# EAGLE library part 6PIN (library Headers)
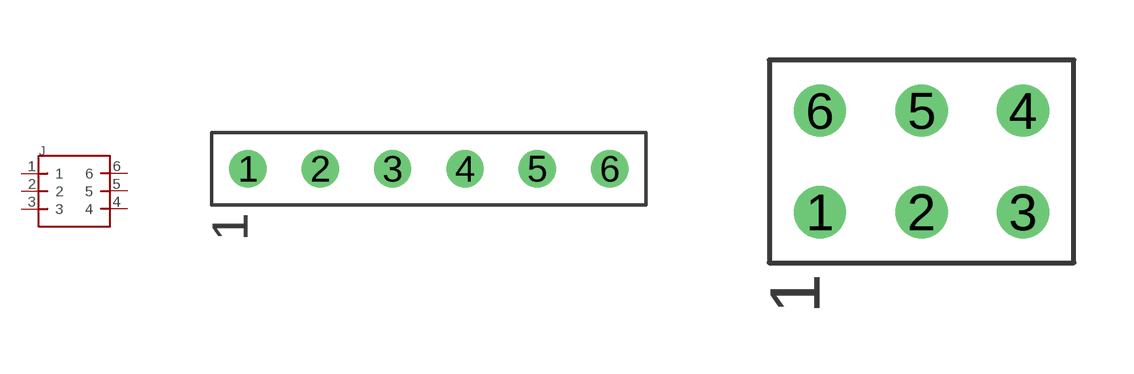
[diagram p5: symbol with the pads of 2.54MM1X6TH; footprints 2.54MM1X6TH, 2.54MM2X3TH]

Designator prefix J

## 6PIN2.54MM1X6TH  [2.54MM1X6TH]
1  1
2  2
3  3
4  4
5  5
6  6

## 6PIN2.54MM2X3TH  [2.54MM2X3TH]
Pads as for 2.54MM1X6TH

## Footprint 2.54MM1X6TH (pad centres in mm)
drill 0.8: 1 0,0; 2 2.54,0; 3 5.08,0; 4 7.62,0; 5 10.16,0; 6 12.7,0

## Footprint 2.54MM2X3TH (pad centres in mm)
drill 0.8: 1 0,0; 2 2.54,0; 3 5.08,0; 4 5.08,2.54; 5 2.54,2.54; 6 0,2.54